# Altium schematic symbol library 连接器.SchLib: 166 symbols (part 2 of 2)
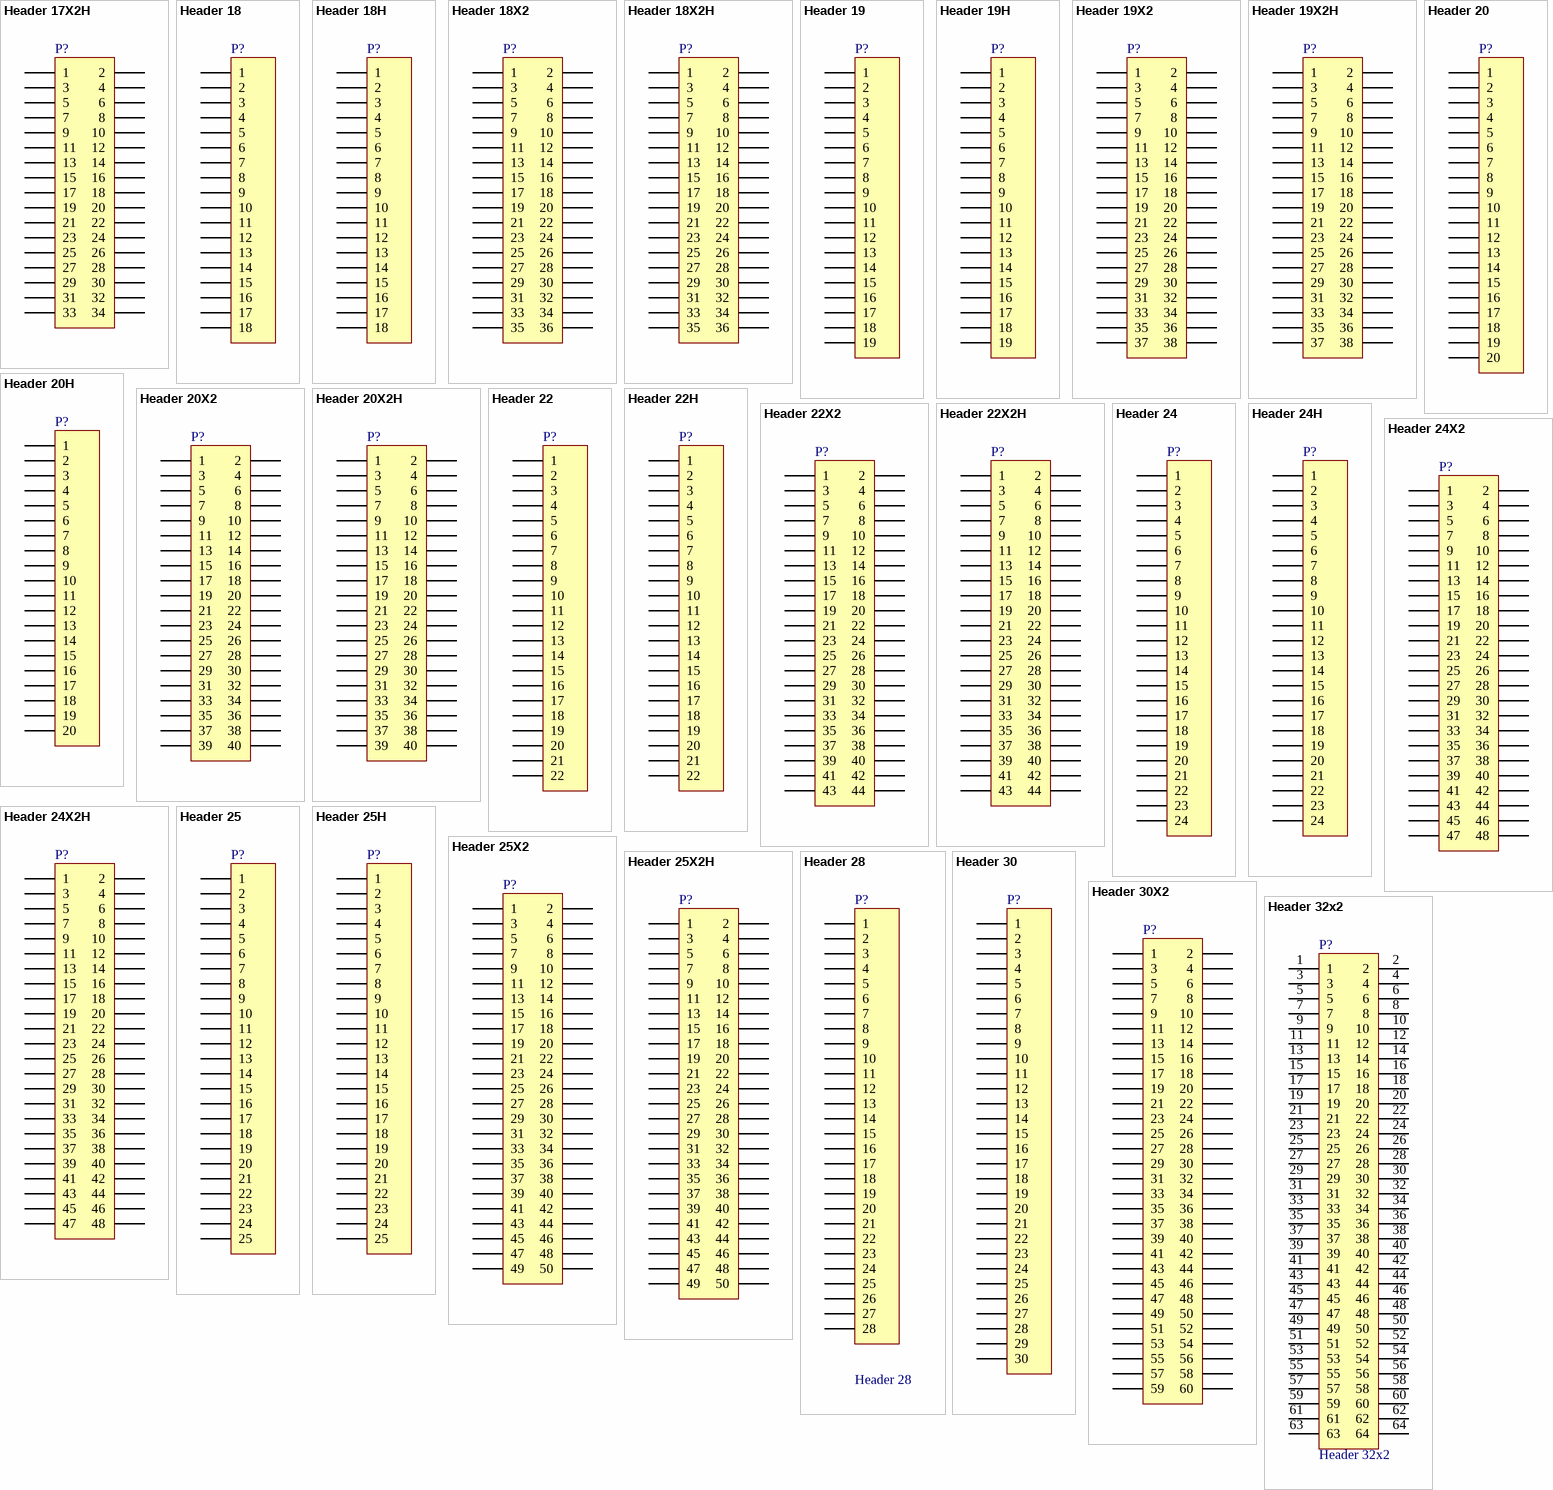
[diagram p6: symbols Header 17X2H to Header 32x2]

## Header 20X2
designator P?
Header, 20-Pin, Dual row; LatestRevisionDate: 17-Jul-2002; LatestRevisionNote: Re-released for DXP Platform.; Publisher: Altium Limited
footprint HDR2X20 (Connector; Header; 20x2 Position)
signal-integrity model Connector
footprint CON127-20X2-DIP (1.27mm脚距20*2 双排针 -55°C to+105°C 450V AC)
footprint FHD127P-2X20 (1.27mm脚距 插件 双排母)
footprint DH127P-2X20 (1.27mm脚距双排母)
footprint Head254p-2X20V (Footprint not found)
pins: 1, 2, 3, 4, 5, 6, 7, 8, 9, 10, 11, 12, 13, 14, 15, 16, 17, 18, 19, 20, 21, 22, 23, 24, 25, 26, 27, 28, 29, 30, 31, 32, 33, 34, 35, 36, 37, 38, 39, 40

## Header 20X2H
designator P?
Header, 20-Pin, Dual row, Right Angle; LatestRevisionDate: 17-Jul-2002; LatestRevisionNote: Re-released for DXP Platform.; Publisher: Altium Limited
footprint HDR2X20H (Connector; Header; 20x2 Position; Right Angle)
signal-integrity model Connector
footprint IDC2.54-H40 (Connector; IDC, Thru-Hole; 40 Position; Right Angle; Pitch 2.54 mm; Body 70.40 x 8.5 x 25.75 mm (LxHxW), Locking levers)
footprint IDC2.54-H40C (Connector; IDC, Low Profile Male Header, Thru-Hole; 40 Position; Right Angle; Pitch 2.54 mm; Body 58.42 x 8.9 x 9.2 mm (LxWxH))
footprint Head254p-2X20H (Footprint not found)
pins: 1, 2, 3, 4, 5, 6, 7, 8, 9, 10, 11, 12, 13, 14, 15, 16, 17, 18, 19, 20, 21, 22, 23, 24, 25, 26, 27, 28, 29, 30, 31, 32, 33, 34, 35, 36, 37, 38, 39, 40

## Header 22
designator P?
Header, 22-Pin; LatestRevisionDate: 17-Jul-2002; LatestRevisionNote: Re-released for DXP Platform.; Publisher: Altium Limited
footprint HDR1X22 (Connector; Header; 22 Position)
signal-integrity model Connector
pins: 1, 2, 3, 4, 5, 6, 7, 8, 9, 10, 11, 12, 13, 14, 15, 16, 17, 18, 19, 20, 21, 22

## Header 22H
designator P?
Header, 22-Pin, Right Angle; LatestRevisionDate: 17-Jul-2002; LatestRevisionNote: Re-released for DXP Platform.; Publisher: Altium Limited
footprint HDR1X22H (Connector; Header; 22 Position; Right Angle)
signal-integrity model Connector
pins: 1, 2, 3, 4, 5, 6, 7, 8, 9, 10, 11, 12, 13, 14, 15, 16, 17, 18, 19, 20, 21, 22

## Header 22X2
designator P?
Header, 22-Pin, Dual row; LatestRevisionDate: 17-Jul-2002; LatestRevisionNote: Re-released for DXP Platform.; Publisher: Altium Limited
footprint HDR2X22 (Connector; Header; 22x2 Position)
signal-integrity model Connector
footprint CON127-22X2-DIP (1.27mm脚距22*2 双排针 -55°C to+105°C 450V AC)
footprint FHD127P-2X22 (1.27mm脚距 插件 双排母)
footprint DH127P-2X22 (1.27mm脚距双排母)
footprint Head254p-2X22V (Footprint not found)
pins: 1, 2, 3, 4, 5, 6, 7, 8, 9, 10, 11, 12, 13, 14, 15, 16, 17, 18, 19, 20, 21, 22, 23, 24, 25, 26, 27, 28, 29, 30, 31, 32, 33, 34, 35, 36, 37, 38, 39, 40, 41, 42, 43, 44

## Header 22X2H
designator P?
Header, 22-Pin, Dual row, Right Angle; LatestRevisionDate: 17-Jul-2002; LatestRevisionNote: Re-released for DXP Platform.; Publisher: Altium Limited
footprint HDR2X22H (Connector; Header; 22x2 Position; Right Angle)
signal-integrity model Connector
footprint Head254p-2X22H (Footprint not found)
pins: 1, 2, 3, 4, 5, 6, 7, 8, 9, 10, 11, 12, 13, 14, 15, 16, 17, 18, 19, 20, 21, 22, 23, 24, 25, 26, 27, 28, 29, 30, 31, 32, 33, 34, 35, 36, 37, 38, 39, 40, 41, 42, 43, 44

## Header 24
designator P?
Header, 24-Pin; LatestRevisionDate: 17-Jul-2002; LatestRevisionNote: Re-released for DXP Platform.; Publisher: Altium Limited
footprint HDR1X24 (Connector; Header; 24 Position)
signal-integrity model Connector
pins: 1, 2, 3, 4, 5, 6, 7, 8, 9, 10, 11, 12, 13, 14, 15, 16, 17, 18, 19, 20, 21, 22, 23, 24

## Header 24H
designator P?
Header, 24-Pin, Right Angle; LatestRevisionDate: 17-Jul-2002; LatestRevisionNote: Re-released for DXP Platform.; Publisher: Altium Limited
footprint HDR1X24H (Connector; Header; 24 Position; Right Angle)
signal-integrity model Connector
pins: 1, 2, 3, 4, 5, 6, 7, 8, 9, 10, 11, 12, 13, 14, 15, 16, 17, 18, 19, 20, 21, 22, 23, 24

## Header 24X2
designator P?
Header, 24-Pin, Dual row; LatestRevisionDate: 17-Jul-2002; LatestRevisionNote: Re-released for DXP Platform.; Publisher: Altium Limited
footprint HDR2X24 (Connector; Header; 24x2 Position)
signal-integrity model Connector
footprint CON127-24X2-DIP (1.27mm脚距24*2 双排针 -55°C to+105°C 450V AC)
footprint FHD127P-2X24 (1.27mm脚距 插件 双排母)
footprint DH127P-2X24 (1.27mm脚距双排母)
footprint Head254p-2X24V (Footprint not found)
pins: 1, 2, 3, 4, 5, 6, 7, 8, 9, 10, 11, 12, 13, 14, 15, 16, 17, 18, 19, 20, 21, 22, 23, 24, 25, 26, 27, 28, 29, 30, 31, 32, 33, 34, 35, 36, 37, 38, 39, 40, 41, 42, 43, 44, 45, 46, 47, 48

## Header 24X2H
designator P?
Header, 24-Pin, Dual row, Right Angle; LatestRevisionDate: 17-Jul-2002; LatestRevisionNote: Re-released for DXP Platform.; Publisher: Altium Limited
footprint HDR2X24H (Connector; Header; 24x2 Position; Right Angle)
signal-integrity model Connector
footprint Head254p-2X24H (Footprint not found)
pins: 1, 2, 3, 4, 5, 6, 7, 8, 9, 10, 11, 12, 13, 14, 15, 16, 17, 18, 19, 20, 21, 22, 23, 24, 25, 26, 27, 28, 29, 30, 31, 32, 33, 34, 35, 36, 37, 38, 39, 40, 41, 42, 43, 44, 45, 46, 47, 48

## Header 25
designator P?
Header, 25-Pin; LatestRevisionDate: 17-Jul-2002; LatestRevisionNote: Re-released for DXP Platform.; Publisher: Altium Limited
footprint HDR1X25 (Connector; Header; 25 Position)
signal-integrity model Connector
pins: 1, 2, 3, 4, 5, 6, 7, 8, 9, 10, 11, 12, 13, 14, 15, 16, 17, 18, 19, 20, 21, 22, 23, 24, 25

## Header 25H
designator P?
Header, 25-Pin, Right Angle; LatestRevisionDate: 17-Jul-2002; LatestRevisionNote: Re-released for DXP Platform.; Publisher: Altium Limited
footprint HDR1X25H (Connector; Header; 25 Position; Right Angle)
signal-integrity model Connector
pins: 1, 2, 3, 4, 5, 6, 7, 8, 9, 10, 11, 12, 13, 14, 15, 16, 17, 18, 19, 20, 21, 22, 23, 24, 25

## Header 25X2
designator P?
Header, 25-Pin, Dual row; LatestRevisionDate: 17-Jul-2002; LatestRevisionNote: Re-released for DXP Platform.; Publisher: Altium Limited
footprint HDR2X25 (Connector; Header; 25x2 Position)
signal-integrity model Connector
footprint CON127-25X2-DIP (1.27mm脚距25*2 双排针 -55°C to+105°C 450V AC)
footprint FHD127P-2X25 (1.27mm脚距 插件 双排母)
footprint DH127P-2X25 (1.27mm脚距双排母)
footprint Head254p-2X25V (Footprint not found)
pins: 1, 2, 3, 4, 5, 6, 7, 8, 9, 10, 11, 12, 13, 14, 15, 16, 17, 18, 19, 20, 21, 22, 23, 24, 25, 26, 27, 28, 29, 30, 31, 32, 33, 34, 35, 36, 37, 38, 39, 40, 41, 42, 43, 44, 45, 46, 47, 48, 49, 50

## Header 25X2H
designator P?
Header, 25-Pin, Dual row, Right Angle; LatestRevisionDate: 17-Jul-2002; LatestRevisionNote: Re-released for DXP Platform.; Publisher: Altium Limited
footprint HDR2X25H (Connector; Header; 25x2 Position; Right Angle)
signal-integrity model Connector
footprint Head254p-2X25H (Footprint not found)
pins: 1, 2, 3, 4, 5, 6, 7, 8, 9, 10, 11, 12, 13, 14, 15, 16, 17, 18, 19, 20, 21, 22, 23, 24, 25, 26, 27, 28, 29, 30, 31, 32, 33, 34, 35, 36, 37, 38, 39, 40, 41, 42, 43, 44, 45, 46, 47, 48, 49, 50

## Header 28
designator P?
Header, 30-Pin; LatestRevisionDate: 17-Jul-2002; LatestRevisionNote: Re-released for DXP Platform.; Publisher: Altium Limited
footprint HDR1X28 (Footprint not found)
signal-integrity model Connector
pins: 1, 2, 3, 4, 5, 6, 7, 8, 9, 10, 11, 12, 13, 14, 15, 16, 17, 18, 19, 20, 21, 22, 23, 24, 25, 26, 27, 28

## Header 30
designator P?
Header, 30-Pin; LatestRevisionDate: 17-Jul-2002; LatestRevisionNote: Re-released for DXP Platform.; Publisher: Altium Limited
footprint HDR1X30 (Connector; Header; 30 Position)
signal-integrity model Connector
pins: 1, 2, 3, 4, 5, 6, 7, 8, 9, 10, 11, 12, 13, 14, 15, 16, 17, 18, 19, 20, 21, 22, 23, 24, 25, 26, 27, 28, 29, 30

## Header 30X2
designator P?
Header, 30-Pin, Dual row; LatestRevisionDate: 17-Jul-2002; LatestRevisionNote: Re-released for DXP Platform.; Publisher: Altium Limited
footprint HDR2X30 (Connector; Header; 30x2 Position)
signal-integrity model Connector
footprint CON127-30X2-DIP (1.27mm脚距30*2 双排针 -55°C to+105°C 450V AC)
footprint FHD127P-2X30 (1.27mm脚距 插件 双排母)
footprint DH127P-2X30 (1.27mm脚距双排母)
footprint Head254p-2X30V (Footprint not found)
pins: 1, 2, 3, 4, 5, 6, 7, 8, 9, 10, 11, 12, 13, 14, 15, 16, 17, 18, 19, 20, 21, 22, 23, 24, 25, 26, 27, 28, 29, 30, 31, 32, 33, 34, 35, 36, 37, 38, 39, 40, 41, 42, 43, 44, 45, 46, 47, 48, 49, 50, 51, 52, 53, 54, 55, 56, 57, 58, 59, 60

## Header 32x2
designator P?
排插
footprint IDC2.54-H64 (Connector; IDC, Thru-Hole; 64 Position; Right Angle; Pitch 2.54 mm; Body 100.88 x 8.5 x 25.75 mm (LxHxW), Locking levers)
footprint CON127-32X2-DIP (1.27mm脚距32*2 双排针 -55°C to+105°C 450V AC)
footprint FHD127P-2X32 (1.27mm脚距 插件 双排母)
footprint DH127P-2X32 (1.27mm脚距双排母)
footprint Head254p-2X30H (Footprint not found)
pins: 1, 2, 3, 4, 5, 6, 7, 8, 9, 10, 11, 12, 13, 14, 15, 16, 17, 18, 19, 20, 21, 22, 23, 24, 25, 26, 27, 28, 29, 30, 31, 32, 33, 34, 35, 36, 37, 38, 39, 40, 41, 42, 43, 44, 45, 46, 47, 48, 49, 50, 51, 52, 53, 54, 55, 56, 57, 58, 59, 60, 61, 62, 63, 64

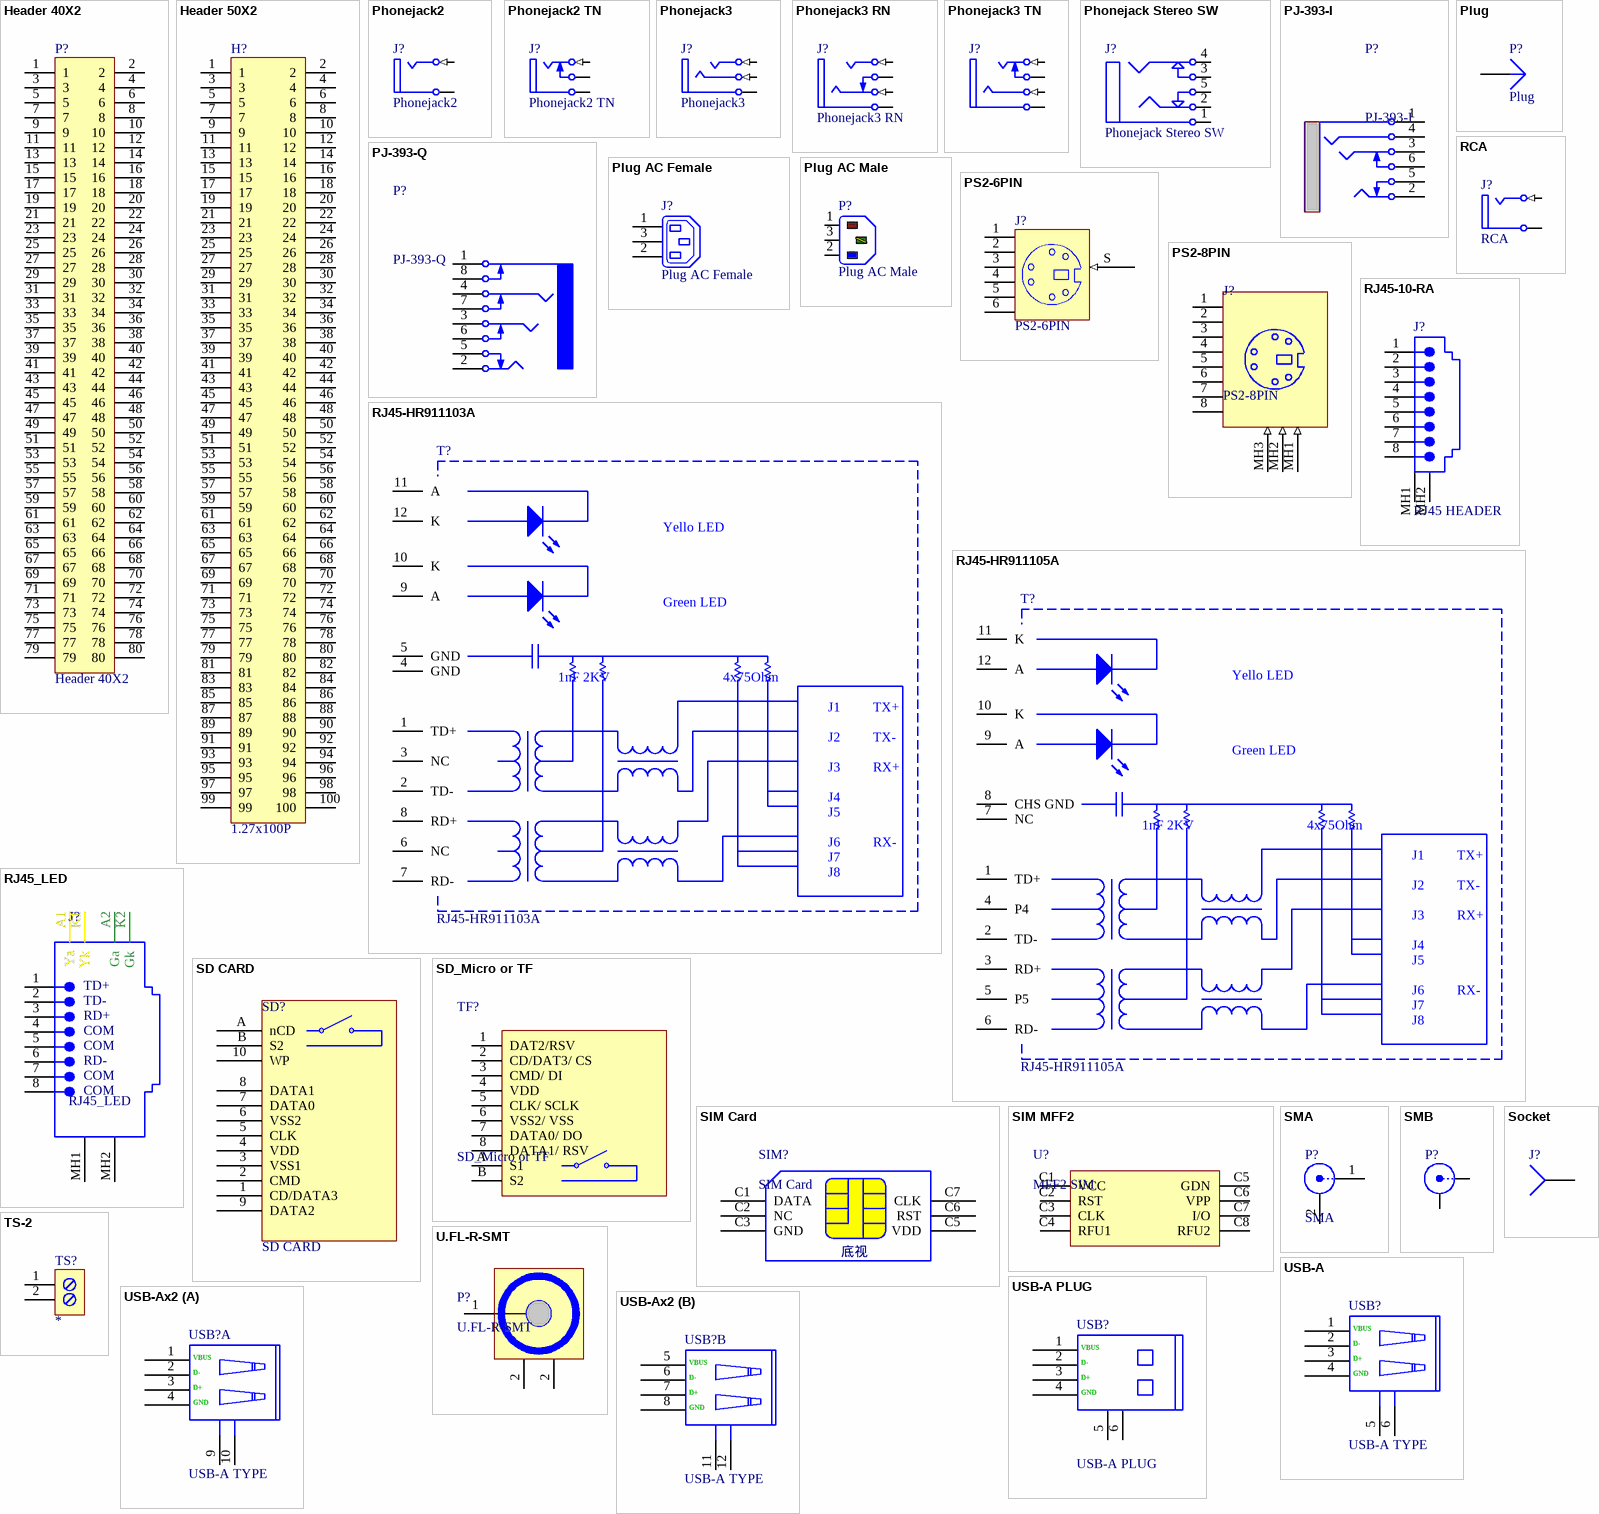
[diagram p4: symbols Header 40X2 to USB-Ax2]

## Header 40X2
designator P?
2.0mm x 2.0mm 排插
footprint HDR2.00x2.00-2x40 (Footprint not found)
footprint CON127-40X2-DIP (1.27mm脚距40*2 双排针 -55°C to+105°C 450V AC)
footprint FHD127P-2X40 (1.27mm脚距 插件 双排母)
footprint DH127P-2X40 (1.27mm脚距双排母)
footprint Head254p-2X40V (Footprint not found)
footprint Head254p-2X50H (Footprint not found)
pins: 1 (power), 2 (power), 3 (power), 4 (power), 5 (power), 6 (power), 7 (power), 8 (power), 9 (power), 10 (power), 11 (power), 12 (power), 13 (power), 14 (power), 15 (power), 16 (power), 17 (power), 18 (power), 19 (power), 20 (power), 21 (power), 22 (power), 23 (power), 24 (power), 25 (power), 26 (power), 27 (power), 28 (power), 29 (power), 30 (power), 31 (power), 32 (power), 33 (power), 34 (power), 35 (power), 36 (power), 37 (power), 38 (power), 39 (power), 40 (power), 41 (power), 42 (power), 43 (power), 44 (power), 45 (power), 46 (power), 47 (power), 48 (power), 49 (power), 50 (power), 51 (power), 52 (power), 53 (power), 54 (power), 55 (power), 56 (power), 57 (power), 58 (power), 59 (power), 60 (power), 61 (power), 62 (power), 63 (power), 64 (power), 65 (power), 66 (power), 67 (power), 68 (power), 69 (power), 70 (power), 71 (power), 72 (power), 73 (power), 74 (power), 75 (power), 76 (power), 77 (power), 78 (power), 79 (power), 80 (power)

## Header 50X2
designator H?, comment 1.27x100P
双50PIN,1.27间距排针.
footprint CON1.27x100x3.4-H (1.27mm x 100PIN 3.4mm体宽排针)
footprint CON1.27X100X3.0-HS (1.27 50X2 PIN 3mm宽贴片排针)
footprint CON1.27X100X3.4-HS (1.27 50X2 PIN 3.4mm宽贴片排针)
footprint CON1.27X100X3.4-S (贴片1.27X50X2脚排母)
footprint CON127-50X2-DIP (1.27mm脚距50*2 双排针 -55°C to+105°C 450V AC)
footprint FHD127P-2X50 (1.27mm脚距 插件 双排母)
footprint CON1.27P-50X2 (贴片双排针 1.27mm 脚距)
footprint DH127P-2X50 (1.27mm脚距双排母)
footprint Head254p-2X50V (Footprint not found)
footprint Head254p-2X50H (Footprint not found)
pins: 1, 2, 3, 4, 5, 6, 7, 8, 9, 10, 11, 12, 13, 14, 15, 16, 17, 18, 19, 20, 21, 22, 23, 24, 25, 26, 27, 28, 29, 30, 31, 32, 33, 34, 35, 36, 37, 38, 39, 40, 41, 42, 43, 44, 45, 46, 47, 48, 49, 50, 51, 52, 53, 54, 55, 56, 57, 58, 59, 60, 61, 62, 63, 64, 65, 66, 67, 68, 69, 70, 71, 72, 73, 74, 75, 76, 77, 78, 79, 80, 81, 82, 83, 84, 85, 86, 87, 88, 89, 90, 91, 92, 93, 94, 95, 96, 97, 98, 99, 100

## Phonejack2
designator J?
单声道; PackageDocument: 2003; PCB_Layout: Complies with manufacturer's recommendation.; DrillAndSlotSize: Corresponds to nominal value.; LatestRevisionDate: 15-Jul-2004; LatestRevisionNote: Component Replaced.; DatasheetDocument: 2003; PackageReference: S1VS_SNS; Publisher: Altium Limited; ComponentLink1Description: Manufacturer Link; ComponentLink1URL: http://www.cliffuk.co.uk/
footprint JACK/6-V2 (Connector; Jack Socket, 1/4" [6.5mm], Thru-Hole, 2 Position, Vertical, Body 15.7 x 15.7 x 31 mm (WxTxH))
signal-integrity model JACK Socket
pins: 1 T (in) "Tip", 5 S (power) "Sleeve (Ground)"

## Phonejack2 TN
designator J?
单声道 带开关; PackageDocument: 2003; PCB_Layout: Complies with manufacturer's recommendation.; DrillAndSlotSize: Corresponds to nominal value.; LatestRevisionDate: 15-Jul-2004; LatestRevisionNote: Component Replaced & renamed from "Phonejack".; DatasheetDocument: 2003; PackageReference: S1VS_SNB; Publisher: Altium Limited; ComponentLink1Description: Manufacturer Link; ComponentLink1URL: http://www.cliffuk.co.uk/
footprint JACK/6-V3A (Connector; Jack Socket, 1/4" [6.5mm], Thru-Hole, 3 Position, Vertical, Body 15.7 x 15.7 x 31 mm (WxTxH))
signal-integrity model JACK Socket
pins: 1 T (in) "Tip", 2 TN "Tip Normal (Break Contact)", 5 S (power) "Sleeve (Ground)"

## Phonejack3
designator J?
双声道; PackageDocument: 2003; PCB_Layout: Complies with manufacturer's recommendation.; DrillAndSlotSize: Corresponds to nominal value.; Published: 15-Jul-2004; LatestRevisionDate: 15-Jul-2004; LatestRevisionNote: Component Replaced.; DatasheetDocument: 2003; PackageReference: S1VS_SSS; Publisher: Altium Limited; ComponentLink1Description: Manufacturer Link; ComponentLink1URL: http://www.cliffuk.co.uk/
footprint JACK/6-V3 (Connector; Jack Socket, 1/4" [6.5mm], Thru-Hole, 3 Position, Vertical, Body 15.7 x 15.7 x 31 mm (WxTxH))
signal-integrity model JACK Socket
pins: 1 T (in) "Tip/Left Channel/(+)", 3 R (in) "Ring/Right Channel/(-)", 5 S (power) "Sleeve (Ground)"

## Phonejack3 RN
designator J?
双声道 单开关; PackageDocument: 2003; PCB_Layout: Complies with manufacturer's recommendation.; DrillAndSlotSize: Corresponds to nominal value.; Published: 15-Jul-2004; DatasheetDocument: 2003; PackageReference: S1VS_SBS; Publisher: Altium Limited; ComponentLink1Description: Manufacturer Link; ComponentLink1URL: http://www.cliffuk.co.uk/
footprint JACK/6-V4A (Connector; Jack Socket, 1/4" [6.5mm], Thru-Hole, 4 Position, Vertical, Body 15.7 x 15.7 x 31 mm (WxTxH))
signal-integrity model JACK Socket
pins: 1 T (in) "Tip/Left Channel/(+)", 3 R (in) "Ring/Right Channel/(-)", 4 RN "Ring Normal (Break Contact)", 5 S (power) "Sleeve (Ground)"

## Phonejack3 TN
designator J?
Jack Socket, 1/4" [6.5mm], Thru-Hole, Vertical, 3-Conductor with Tip closed & Ring open; PackageDocument: 2003; PCB_Layout: Complies with manufacturer's recommendation.; DrillAndSlotSize: Corresponds to nominal value.; Published: 15-Jul-2004; DatasheetDocument: 2003; PackageReference: S1VS_SSB; Publisher: Altium Limited; ComponentLink1Description: Manufacturer Link; ComponentLink1URL: http://www.cliffuk.co.uk/
footprint JACK/6-V4 (Connector; Jack Socket, 1/4" [6.5mm], Thru-Hole, 4 Position, Vertical, Body 15.7 x 15.7 x 31 mm (WxTxH))
signal-integrity model JACK Socket
pins: 1 T (in) "Tip/Left Channel/(+)", 2 TN "Tip Normal (Break Contact)", 3 R (in) "Ring/Right Channel/(-)", 5 S (power) "Sleeve (Ground)"

## Phonejack Stereo SW
designator J?
双声道 带开关; Published: 5-Jan-2004; LatestRevisionDate: 17-Dec-2003; LatestRevisionNote: PCB Footprint replaced.; DatasheetDocument: 07-Mar-2000; Publisher: Altium Limited; ComponentLink1Description: Manufacturer Link; ComponentLink1URL: http://domino.kycon.com/internet/Products.html
footprint ST-3150-5N (Connector; Stereo Jack, 3.5mm, 5 Position)
signal-integrity model Connector
footprint PJ-325C-BLEU (Connector; Stereo Jack, 3.5mm, 5 Position)
footprint PJ-325C-Green (Connector; Stereo Jack, 3.5mm, 5 Position)
footprint PJ-325C-Ora (Connector; Stereo Jack, 3.5mm, 5 Position)
footprint PJ-325C-RED (Connector; Stereo Jack, 3.5mm, 5 Position)
footprint PJ-325C-ZI (Connector; Stereo Jack, 3.5mm, 5 Position)
pins: 1, 1A, 1B, 2, 2A, 2B, 3, 3A, 3B, 4, 4A, 4B, 5, 5A, 5B

## PJ-393-I
designator P?
三通 带开关; PackageDocument: 2003; PCB_Layout: Complies with manufacturer's recommendation.; DrillAndSlotSize: Corresponds to nominal value.; Published: 15-Jul-2004; DatasheetDocument: 2003; PackageReference: S1VS_SSB; Publisher: Altium Limited; ComponentLink1Description: Manufacturer Link; ComponentLink1URL: http://www.cliffuk.co.uk/
footprint PJ-393 (Footprint not found)
pins: 1 COM (power) "Sleeve (Ground)", 2 L, 3 R (power) "Ring/Right Channel/(-)", 4 Mic "Tip Normal (Break Contact)", 5 LSW "Tip Normal (Break Contact)", 6 RSW (power) "Tip/Left Channel/(+)"

## PJ-393-Q
designator P?
三通 带开关; PackageDocument: 2003; PCB_Layout: Complies with manufacturer's recommendation.; DrillAndSlotSize: Corresponds to nominal value.; Published: 15-Jul-2004; DatasheetDocument: 2003; PackageReference: S1VS_SSB; Publisher: Altium Limited; ComponentLink1Description: Manufacturer Link; ComponentLink1URL: http://www.cliffuk.co.uk/
footprint PJ-393 (Footprint not found)
pins: 1 COM (power) "Sleeve (Ground)", 2 L, 3 R (power) "Ring/Right Channel/(-)", 4 Mic "Tip Normal (Break Contact)", 5 LSW "Tip Normal (Break Contact)", 6 RSW (power) "Tip/Left Channel/(+)", 7 RSW (power) "Tip/Left Channel/(+)", 8 RSW (power) "Tip/Left Channel/(+)"

## Plug
designator P?
LatestRevisionDate: 17-Jul-2002; LatestRevisionNote: Re-released for DXP Platform.; Publisher: Altium Limited
footprint PIN1 (Connector; Plug)
signal-integrity model Connector
pins: 1

## Plug AC Female
designator J?
安规交流电源座 输入型; PackageDocument: ver.80, 15-Sep-2003; MaximumRating: 10A, 250V a.c. (UL & CSA 15A, 250V a.c.); MountingFixtures: Not drawn on schematic symbol.; PCB_Layout: Complies with manufacturer's recommendation.; DrillSize: Corresponds to nominal value.; Published: 15-Jul-2004; LatestRevisionDate: 15-Jul-2004; LatestRevisionNote: Component Replaced & renamed from "Phonejack".; DatasheetDocument: ver.80, 15-Sep-2003; PackageReference: PX0675/PC; Publisher: Altium Limited; Terminations: P.C. Spills; ComponentLink1Description: Manufacturer Link; ComponentLink1URL: http://www.bulgin.co.uk/
footprint IEC7-2H3 (Mains Power Outlet, IEC60 320-2-2 F, PC Flange Rear Mount)
pins: 1 L (power) "Live (Active)", 2 N (power) "Neutral", 3 E (power) "Earth (Ground)"

## Plug AC Male
designator P?
安规交流电源座 输出型; PackageDocument: ver.80, 15-Sep-2003; MaximumRating: 10A, 250V a.c. (UL & CSA 15A, 250V a.c.); MountingFixtures: Not drawn on schematic symbol.; PCB_Layout: Complies with manufacturer's recommendation.; DrillSize: Corresponds to nominal value.; Note: IEC Color Scheme employed for L, N and E.; Published: 15-Jul-2004; LatestRevisionDate: 15-Jul-2004; LatestRevisionNote: Component Replaced.; DatasheetDocument: ver.80, 15-Sep-2003; PackageReference: PX0580/PC; Publisher: Altium Limited; Terminations: P.C. Spills; ComponentLink1Description: Manufacturer Link; ComponentLink1URL: http://www.bulgin.co.uk/
footprint IEC9.14-2H3 (Mains Power Inlet, IEC60 320-1 C14, PC Flange Rear Mount)
pins: 1 L (power) "Live (Active)", 2 N (power) "Neutral", 3 E (power) "Earth (Ground)"

## PS2-6PIN
designator J?
PS2 连接器; Published: 17-Dec-2003; Publisher: Altium Limited; ComponentLink1Description: Manufacturer Link; ComponentLink1URL: http://www.oupiin.com/prodindx.html#Headers
footprint PS2-6PIN (PS2 Socket, 6 Pin, Through Hole)
signal-integrity model Connector
pins: 1, 2, 3, 4, 5, 6, S (in)

## PS2-8PIN
designator J?
PS2 连接器; Published: 17-Dec-2003; Publisher: Altium Limited; ComponentLink1Description: Manufacturer Link; ComponentLink1URL: http://www.oupiin.com/prodindx.html#Headers
signal-integrity model Connector
footprint CDIN2.6-3H8-Green (Connector; Circular DIN, Thru-Hole; 8 Position; Right Angle; Pitch 2.05/2.6 mm; Body 14 x 12.83 x 13 mm (WxTxH), Shielded, Special PCB Retention)
footprint CDIN2.6-3H8-ZI (Connector; Circular DIN, Thru-Hole; 8 Position; Right Angle; Pitch 2.05/2.6 mm; Body 14 x 12.83 x 13 mm (WxTxH), Shielded, Special PCB Retention)
pins: 1, 2, 3, 4, 5, 6, 7, 8, MH1 S (in), MH2 S (in), MH3 S (in)

## RCA
designator J?
RCA 音频连接器; PCB_Layout: Complies with manufacturer's recommendation.; DrillAndSlotSize: Corresponds to nominal value.; Published: 15-Jul-2004; LatestRevisionDate: 15-Jul-2004; LatestRevisionNote: Component Replaced.; DatasheetDocument: 7-Jul-2000; PackageDocument: 7-Jul-2000; PackageReference: 161; Publisher: Altium Limited; ComponentLink1Description: Manufacturer Link; ComponentLink1URL: http://www.mouser.com/kobiconn/
footprint RCA/4.5-H2 (Two Conductor Jack (RCA), Right Angle, Thru-Hole, Body 10 x 10 x 13 mm (WxTxH))
signal-integrity model RCA
pins: 1A Ground (power) "Outer Shield (Sleeve)", 2B Signal (in) "Center Pin (Plug Tip)"

## RJ45-10-RA
designator J?, comment RJ45 HEADER
RJ45 连接器; Design Item Id: CON-RA-RJ45-95122-2881
footprint RJ45-JACK1.27-4H8I (Connector; PCB Jack, Thru-Hole; 1-Port, 8 Positions, 8 Loaded; Shielded without Lightpipes; Right Angle)
footprint RJ45-JACK1.27-4H8J (Connector; PCB Jack, Thru-Hole; 1-Port, 8 Positions, 8 Loaded; Shielded without Lightpipes; Right Angle)
pins: 1, 2, 3, 4, 5, 6, 7, 8, MH1 Shield, MH2 Shield

## RJ45-HR911103A
designator T?
带变压器的网口座
footprint HR911105A (Footprint not found)
pins: 1 TD+, 2 TD-, 3 NC, 4 GND, 5 GND, 6 NC, 7 RD-, 8 RD+, 9 A, 10 K, 11 A, 12 K
text: Yello LED; Green LED; 1nF 2KV; 4x75Ohm; J1; TX+; J2; TX-; J3; RX+; J4; J5; J6; RX-; J7; J8

## RJ45-HR911105A
designator T?
带变压器的网口座
footprint HR911105A (Footprint not found)
pins: 1 TD+, 2 TD-, 3 RD+, 4 P4, 5 P5, 6 RD-, 7 NC, 8 CHS GND, 9 A, 10 K, 11 K, 12 A
text: Yello LED; Green LED; 1nF 2KV; 4x75Ohm; J1; TX+; J2; TX-; J3; RX+; J4; J5; J6; RX-; J7; J8

## RJ45_LED
designator J?
RJ45 连接器 带灯
footprint RJ45-JACK1.27-4H8-LED (Connector; PCB Jack, Thru-Hole; 1-Port, 8 Positions, 8 Loaded; Shielded without Lightpipes; Right Angle)
pins: 1, 2, 3, 4, 5, 6, 7, 8, A1 Ya (power), A2 Ga (power), K1 Yk (power), K2 Gk (power), MH1 Shield, MH2 Shield
text: TD+; TD-; RD+; COM; RD-

## SD CARD
designator SD?
SD卡座
footprint SD 473090265
pins: 1 CD/DATA3, 2 CMD, 3 VSS1, 4 VDD, 5 CLK, 6 VSS2, 7 DATA0, 8 DATA1, 9 DATA2, 10 WP, A nCD, B S2

## SD_Micro or TF
designator TF?
Micro SD TF卡座
footprint SD TF 473340001
footprint SD TF 1051490101
footprint SD TF 5009010801
footprint SD TF 2201778
pins: 1 DAT2/RSV (power) "Data Line [Bit2]", 2 CD/DAT3/ CS (power), 3 CMD/ DI, 4 VDD, 5 CLK/ SCLK, 6 VSS2/ VSS, 7 DATA0/ DO, 8 DATA1/ RSV, A S1, B S2

## SIM Card
designator SIM?
SIM卡座
footprint SIM 473121001 (SIM卡座)
footprint SIM 475480001 (SIM卡座)
footprint SIM 474688001 (SIM卡座)
pins: C1 DATA, C2 NC, C3 GND, C5 VDD, C6 RST, C7 CLK
text: 底视

## SIM MFF2
designator U?, comment MFF2 SIM
贴片SIM卡
footprint VQFN127P50X60-8 (Footprint not found)
pins: C1 VCC, C2 RST, C3 CLK, C4 RFU1, C5 GDN, C6 VPP, C7 I/O, C8 RFU2

## SMA
designator P?
SMB Straight Connector; LatestRevisionDate: 17-Jul-2002; LatestRevisionNote: Re-released for DXP Platform.; Publisher: Altium Limited
signal-integrity model Connector
footprint SMA 732511150 (SMA 贴片连接器 适用1.6mm板厚)
footprint SMA 732511290 (SMA 贴片连接器 适用1.6mm板厚)
footprint SMA 732511350 (SMA 180度连接器)
footprint SMA 732512123 (SMA 贴片连接器 适用1.6mm板厚)
footprint SMA SALF54GT (SMA 90度连接器)
footprint SMA SALF54LGT (SMA 90度连接器)
footprint SMA SASF54GT (SMA 180度连接器)
footprint SMA SASF55LGT (SMA 贴片连接器 适用1.6mm板厚)
footprint SMA sasf55z-4 (SMA 贴片连接器 适用1.0mm或1.2mm板厚)
pins: 1 X, 2 Y

## SMB
designator P?
SMB Straight Connector; LatestRevisionDate: 17-Jul-2002; LatestRevisionNote: Re-released for DXP Platform.; Publisher: Altium Limited
footprint SMB V-RJ45 (Connector; SMB Straight)
signal-integrity model Connector
footprint SMB 1337604 (SMB 贴片连接器)
footprint SMB 1337481 (SMB 连接器)
pins: 1 X, 2 Y

## Socket
designator J?
Socket; LatestRevisionDate: 17-Jul-2002; LatestRevisionNote: Re-released for DXP Platform.; Publisher: Altium Limited
footprint PIN1 (Connector; Socket)
signal-integrity model Connector
pins: 1

## TS-2
designator TS?
镙钉式PCB端子
footprint 393570002
footprint 395430002
footprint 395433002
pins: 1 "Screw Terminal", 2 "Screw Terminal"

## U.FL-R-SMT
designator P?
贴片小型高频同轴接插器
footprint U.FL-R-SMT(60) (DC-6G射频连接器)
pins: 1 RF "裸焊盘", 2 GND "裸焊盘", 2 GND "裸焊盘"

## USB-A
designator USB?, comment USB-A TYPE
USB2.0 A 型座
footprint USB2.0-4H4 (Connector; USB1.1, Type A, Thru-Hole; 4 Position; Right Angle)
footprint USB2.5-2H4C (Connector; USB1.1, Type A, Thru-Hole; 4 Position; Right Angle)
pins: 1 VBUS, 2 D-, 3 D+, 4 GND, 5, 6

## USB-A PLUG
designator USB?
USB2.0 A 型插座
footprint USB A Plug (USB插头 480370001 USB A Plug)
pins: 1 VBUS, 2 D-, 3 D+, 4 GND, 5, 6

## USB-Ax2
designator USB?, comment USB-A TYPE
USB 2.0 A 型双座
footprint USB2.5-4H8 (Connector; USB1.1, Type A, Thru-Hole; 4x4 Position; Right Angle)
part A pins: 1 VBUS, 2 D-, 3 D+, 4 GND, 9 GND, 10 GND
part B pins: 5 VBUS, 6 D-, 7 D+, 8 GND, 11 GND, 12 GND

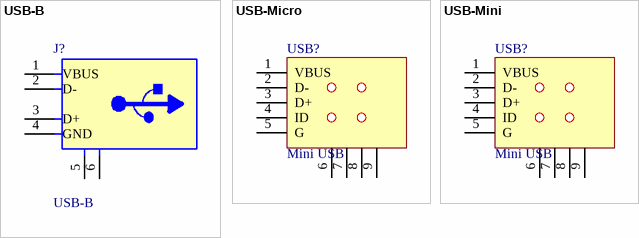
[diagram p5: symbols USB-B to USB-Mini]

## USB-B
designator J?
USB B型座
footprint USB2.5-2H4D (Connector; USB1.1, Type B, Thru-Hole; 4 Position; Right Angle)
pins: 1 VBUS, 2 D-, 3 D+, 4 GND, 5, 6

## USB-Micro
designator USB?, comment Mini USB
USB Micro 座
footprint Micro-473460001 (Micro USB)
footprint Micro-474911001 (Micro USB 沉板贴片型)
footprint Micro-1050170001 (Micro USB)
footprint Micro-1050170002 (Micro USB)
footprint Micro-47590001 (USB AB贴片座)
pins: 1 VBUS, 2 D-, 3 D+, 4 ID, 5 G, 6 "裸焊盘", 7 "裸焊盘", 8 "裸焊盘", 9 "裸焊盘"

## USB-Mini
designator USB?, comment Mini USB
USB Mini 座
footprint USBAB
pins: 1 VBUS, 2 D-, 3 D+, 4 ID, 5 G, 6 "裸焊盘", 7 "裸焊盘", 8 "裸焊盘", 9 "裸焊盘"